# EAGLE library part MMC3120MR (library X893)
Ultra Small Tri-axis Magnetic Sensor, With I2C Interface http://www.memsic.com/data/products/MMC312xMR/MMC312xMR%20Preliminary.pdf
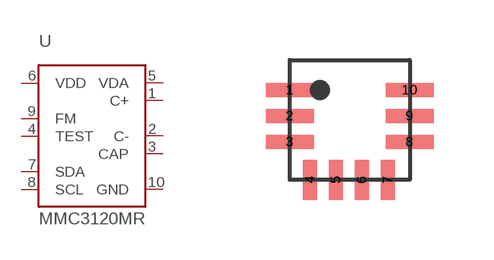
[diagram p62: symbol with the pads of MMC3120MR; footprint MMC3120MR]

Designator prefix U

## MMC3120MR  [MMC3120MR]
1  C+  pas
2  C-  pas
3  CAP  pas
4  TEST  pas
5  VDA  pas
6  VDD  pas
7  SDA
8  SCL
9  FM  pas
10  GND  pwr

## Footprint MMC3120MR (pad centres in mm)
http://www.memsic.com/data/products/MMC312xMR/MMC312xMR%20Preliminary.pdf
smd 1.2 x 0.35: 1 -1.5,0.75; 2 -1.5,0.1; 3 -1.5,-0.55; 8 1.5,-0.55; 9 1.5,0.1; 10 1.5,0.75
smd 0.35 x 1: 4 -1,-1.5; 5 -0.35,-1.5; 6 0.3,-1.5; 7 0.95,-1.5